# Altium footprint library amd-mach.PCBLIB: 14 footprints (part 1 of 2)
Each footprint in its own frame and in the unit in brackets; x right, y up, seen from the top. Pads: shape width x height; smd on the part's side, far side on the other; paste and mask are expansions set on the pad; w line width, h text height; cw(c..) or ccw(c..) is an arc to the next point about the centre after c.
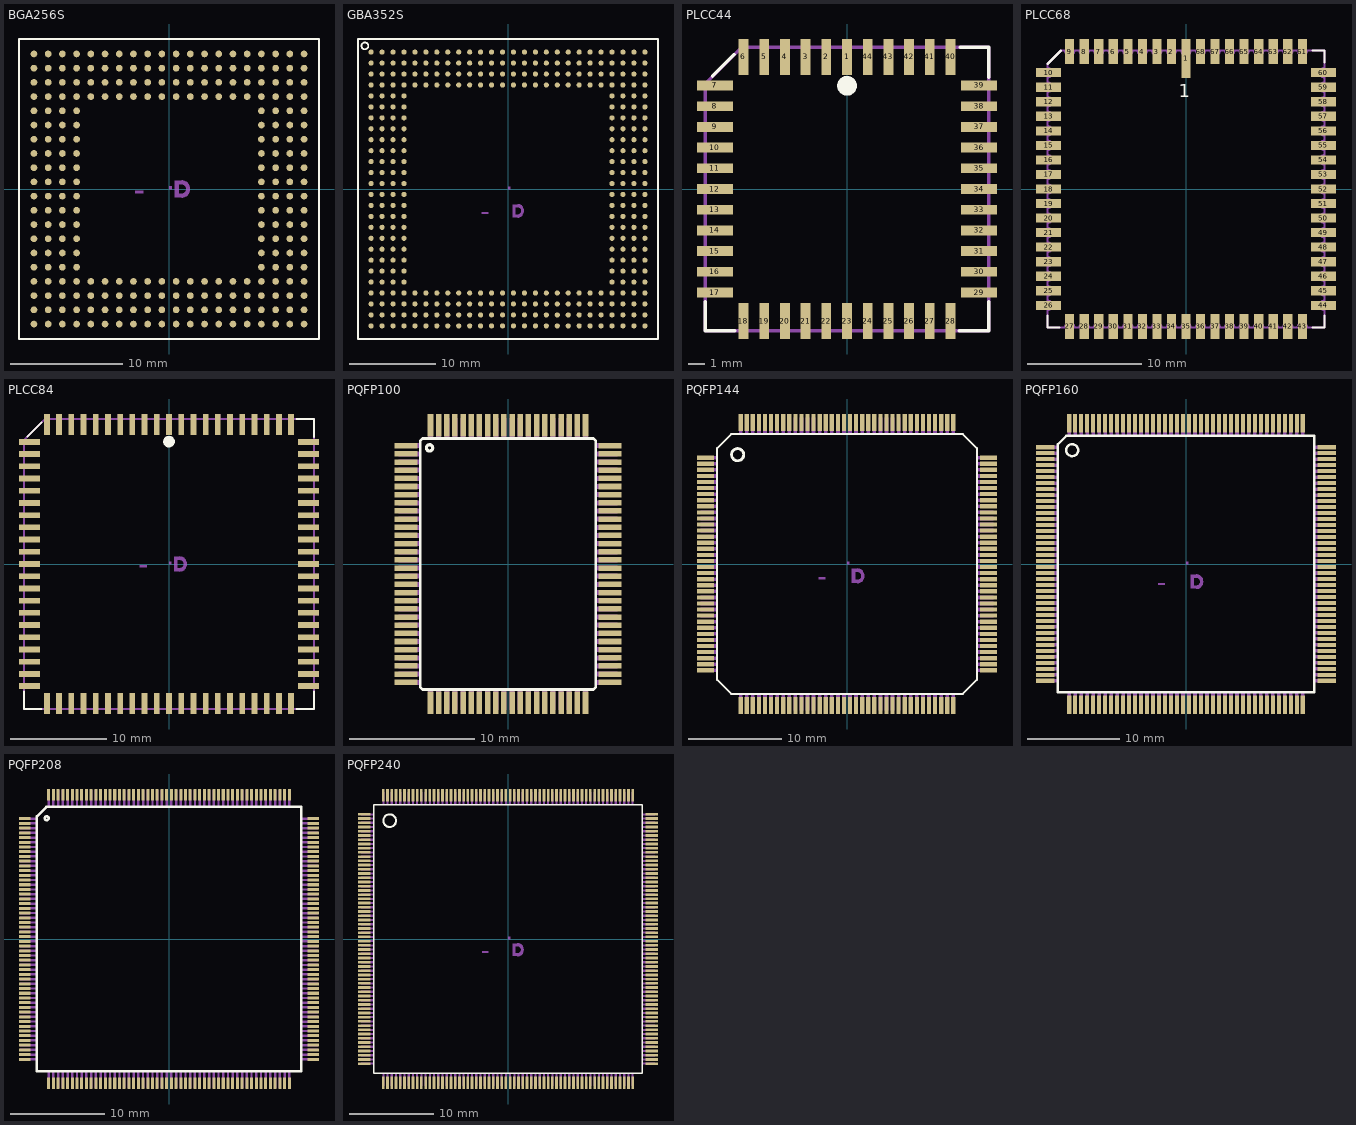
[diagram p0: the footprints below, top view; thin cyan lines are the x and y axes]

## BGA256S [mm]
pads (256):
  rrect100% 0.6x0.6 smd: A1(-12.065,12.065) A2(-10.795,12.065) A3(-9.525,12.065) A4(-8.255,12.065) A5(-6.985,12.065) A6(-5.715,12.065) A7(-4.445,12.065) A8(-3.175,12.065) A9(-1.905,12.065) A10(-0.635,12.065) A11(0.635,12.065) A12(1.905,12.065) A13(3.175,12.065) A14(4.445,12.065) A15(5.715,12.065) A16(6.985,12.065) A17(8.255,12.065) A18(9.525,12.065) A19(10.795,12.065) A20(12.065,12.065) B1(-12.065,10.795) B2(-10.795,10.795) B3(-9.525,10.795) B4(-8.255,10.795) B5(-6.985,10.795) B6(-5.715,10.795) B7(-4.445,10.795) B8(-3.175,10.795) B9(-1.905,10.795) B10(-0.635,10.795) B11(0.635,10.795) B12(1.905,10.795) B13(3.175,10.795) B14(4.445,10.795) B15(5.715,10.795) B16(6.985,10.795) B17(8.255,10.795) B18(9.525,10.795) B19(10.795,10.795) B20(12.065,10.795) C1(-12.065,9.525) C2(-10.795,9.525) C3(-9.525,9.525) C4(-8.255,9.525) C5(-6.985,9.525) C6(-5.715,9.525) C7(-4.445,9.525) C8(-3.175,9.525) C9(-1.905,9.525) C10(-0.635,9.525) C11(0.635,9.525) C12(1.905,9.525) C13(3.175,9.525) C14(4.445,9.525) C15(5.715,9.525) C16(6.985,9.525) C17(8.255,9.525) C18(9.525,9.525) C19(10.795,9.525) C20(12.065,9.525) D1(-12.065,8.255) D2(-10.795,8.255) D3(-9.525,8.255) D4(-8.255,8.255) D5(-6.985,8.255) D6(-5.715,8.255) D7(-4.445,8.255) D8(-3.175,8.255) D9(-1.905,8.255) D10(-0.635,8.255) D11(0.635,8.255) D12(1.905,8.255) D13(3.175,8.255) D14(4.445,8.255) D15(5.715,8.255) D16(6.985,8.255) D17(8.255,8.255) D18(9.525,8.255) D19(10.795,8.255) D20(12.065,8.255) E1(-12.065,6.985) E2(-10.795,6.985) E3(-9.525,6.985) E4(-8.255,6.985) E17(8.255,6.985) E18(9.525,6.985) E19(10.795,6.985) E20(12.065,6.985) F1(-12.065,5.715) F2(-10.795,5.715) F3(-9.525,5.715) F4(-8.255,5.715) F17(8.255,5.715) F18(9.525,5.715) F19(10.795,5.715) F20(12.065,5.715) G1(-12.065,4.445) G2(-10.795,4.445) G3(-9.525,4.445) G4(-8.255,4.445) G17(8.255,4.445) G18(9.525,4.445) G19(10.795,4.445) G20(12.065,4.445) H1(-12.065,3.175) H2(-10.795,3.175) H3(-9.525,3.175) H4(-8.255,3.175) H17(8.255,3.175) H18(9.525,3.175) H19(10.795,3.175) H20(12.065,3.175) J1(-12.065,1.905) J2(-10.795,1.905) J3(-9.525,1.905) J4(-8.255,1.905) J17(8.255,1.905) J18(9.525,1.905) J19(10.795,1.905) J20(12.065,1.905) K1(-12.065,0.635) K2(-10.795,0.635) K3(-9.525,0.635) K4(-8.255,0.635) K17(8.255,0.635) K18(9.525,0.635) K19(10.795,0.635) K20(12.065,0.635) L1(-12.065,-0.635) L2(-10.795,-0.635) L3(-9.525,-0.635) L4(-8.255,-0.635) L17(8.255,-0.635) L18(9.525,-0.635) L19(10.795,-0.635) L20(12.065,-0.635) M1(-12.065,-1.905) M2(-10.795,-1.905) M3(-9.525,-1.905) M4(-8.255,-1.905) M17(8.255,-1.905) M18(9.525,-1.905) M19(10.795,-1.905) M20(12.065,-1.905) N1(-12.065,-3.175) N2(-10.795,-3.175) N3(-9.525,-3.175) N4(-8.255,-3.175) N17(8.255,-3.175) N18(9.525,-3.175) N19(10.795,-3.175) N20(12.065,-3.175) P1(-12.065,-4.445) P2(-10.795,-4.445) P3(-9.525,-4.445) P4(-8.255,-4.445) P17(8.255,-4.445) P18(9.525,-4.445) P19(10.795,-4.445) P20(12.065,-4.445) R1(-12.065,-5.715) R2(-10.795,-5.715) R3(-9.525,-5.715) R4(-8.255,-5.715) R17(8.255,-5.715) R18(9.525,-5.715) R19(10.795,-5.715) R20(12.065,-5.715) T1(-12.065,-6.985) T2(-10.795,-6.985) T3(-9.525,-6.985) T4(-8.255,-6.985) T17(8.255,-6.985) T18(9.525,-6.985) T19(10.795,-6.985) T20(12.065,-6.985) U1(-12.065,-8.255) U2(-10.795,-8.255) U3(-9.525,-8.255) U4(-8.255,-8.255) U5(-6.985,-8.255) U6(-5.715,-8.255) U7(-4.445,-8.255) U8(-3.175,-8.255) U9(-1.905,-8.255) U10(-0.635,-8.255) U11(0.635,-8.255) U12(1.905,-8.255) U13(3.175,-8.255) U14(4.445,-8.255) U15(5.715,-8.255) U16(6.985,-8.255) U17(8.255,-8.255) U18(9.525,-8.255) U19(10.795,-8.255) U20(12.065,-8.255) V1(-12.065,-9.525) V2(-10.795,-9.525) V3(-9.525,-9.525) V4(-8.255,-9.525) V5(-6.985,-9.525) V6(-5.715,-9.525) V7(-4.445,-9.525) V8(-3.175,-9.525) V9(-1.905,-9.525) V10(-0.635,-9.525) V11(0.635,-9.525) V12(1.905,-9.525) V13(3.175,-9.525) V14(4.445,-9.525) V15(5.715,-9.525) V16(6.985,-9.525) V17(8.255,-9.525) V18(9.525,-9.525) V19(10.795,-9.525) V20(12.065,-9.525) W1(-12.065,-10.795) W2(-10.795,-10.795) W3(-9.525,-10.795) W4(-8.255,-10.795) W5(-6.985,-10.795) W6(-5.715,-10.795) W7(-4.445,-10.795) W8(-3.175,-10.795) W9(-1.905,-10.795) W10(-0.635,-10.795) W11(0.635,-10.795) W12(1.905,-10.795) W13(3.175,-10.795) W14(4.445,-10.795) W15(5.715,-10.795) W16(6.985,-10.795) W17(8.255,-10.795) W18(9.525,-10.795) W19(10.795,-10.795) W20(12.065,-10.795) Y1(-12.065,-12.065) Y2(-10.795,-12.065) Y3(-9.525,-12.065) Y4(-8.255,-12.065) Y5(-6.985,-12.065) Y6(-5.715,-12.065) Y7(-4.445,-12.065) Y8(-3.175,-12.065) Y9(-1.905,-12.065) Y10(-0.635,-12.065) Y11(0.635,-12.065) Y12(1.905,-12.065) Y13(3.175,-12.065) Y14(4.445,-12.065) Y15(5.715,-12.065) Y16(6.985,-12.065) Y17(8.255,-12.065) Y18(9.525,-12.065) Y19(10.795,-12.065) Y20(12.065,-12.065)
Top Overlay:
  lines w0.203: -13.4,-13.389 -13.4,13.389 ; -13.389,-13.4 13.389,-13.4 ; -13.389,13.4 13.389,13.4 ; 13.4,-13.389 13.4,13.389
Mechanical 16:
  rectangle: 0.584,0.406 1.143,0.762
  rectangle: 0.584,-0.762 1.143,-0.406
  rectangle: -3.048,-0.381 -2.286,-0.127
  rectangle: 0.508,-0.762 0.889,0.762
  region: 0,0 0.254,0 0.254,0.254 0,0.254
  region: 0,0 0.254,0 0.254,0.254 0,0.254
  region: 0,0 0.254,0 0.254,0.254 0,0.254
  region: 0,0 0.254,0 0.254,0.254 0,0.254
  region: 0,0 0.254,0 0.254,0.254 0,0.254
  lines w0.051: 1.118,-0.737 ccw(c1.118,0) 1.118,0.737
  lines w0.203: 1.118,-0.635 ccw(c1.118,0) 1.118,0.635
  lines w0.254: 1.118,-0.533 ccw(c1.118,0) 1.118,0.533
  text "BGA256" at -4.715,-2.635 h1.26

## GBA352S [mm]
pads (352):
  rrect100% 0.6x0.6 smd: A1(-15.875,15.875) A2(-14.605,15.875) A3(-13.335,15.875) A4(-12.065,15.875) A5(-10.795,15.875) A6(-9.525,15.875) A7(-8.255,15.875) A8(-6.985,15.875) A9(-5.715,15.875) A10(-4.445,15.875) A11(-3.175,15.875) A12(-1.905,15.875) A13(-0.635,15.875) A14(0.635,15.875) A15(1.905,15.875) A16(3.175,15.875) A17(4.445,15.875) A18(5.715,15.875) A19(6.985,15.875) A20(8.255,15.875) A21(9.525,15.875) A22(10.795,15.875) A23(12.065,15.875) A24(13.335,15.875) A25(14.605,15.875) A26(15.875,15.875) AA1(-15.875,-9.525) AA2(-14.605,-9.525) AA3(-13.335,-9.525) AA4(-12.065,-9.525) AA23(12.065,-9.525) AA24(13.335,-9.525) AA25(14.605,-9.525) AA26(15.875,-9.525) AB1(-15.875,-10.795) AB2(-14.605,-10.795) AB3(-13.335,-10.795) AB4(-12.065,-10.795) AB23(12.065,-10.795) AB24(13.335,-10.795) AB25(14.605,-10.795) AB26(15.875,-10.795) AC1(-15.875,-12.065) AC2(-14.605,-12.065) AC3(-13.335,-12.065) AC4(-12.065,-12.065) AC5(-10.795,-12.065) AC6(-9.525,-12.065) AC7(-8.255,-12.065) AC8(-6.985,-12.065) AC9(-5.715,-12.065) AC10(-4.445,-12.065) AC11(-3.175,-12.065) AC12(-1.905,-12.065) AC13(-0.635,-12.065) AC14(0.635,-12.065) AC15(1.905,-12.065) AC16(3.175,-12.065) AC17(4.445,-12.065) AC18(5.715,-12.065) AC19(6.985,-12.065) AC20(8.255,-12.065) AC21(9.525,-12.065) AC22(10.795,-12.065) AC23(12.065,-12.065) AC24(13.335,-12.065) AC25(14.605,-12.065) AC26(15.875,-12.065) AD1(-15.875,-13.335) AD2(-14.605,-13.335) AD3(-13.335,-13.335) AD4(-12.065,-13.335) AD5(-10.795,-13.335) AD6(-9.525,-13.335) AD7(-8.255,-13.335) AD8(-6.985,-13.335) AD9(-5.715,-13.335) AD10(-4.445,-13.335) AD11(-3.175,-13.335) AD12(-1.905,-13.335) AD13(-0.635,-13.335) AD14(0.635,-13.335) AD15(1.905,-13.335) AD16(3.175,-13.335) AD17(4.445,-13.335) AD18(5.715,-13.335) AD19(6.985,-13.335) AD20(8.255,-13.335) AD21(9.525,-13.335) AD22(10.795,-13.335) AD23(12.065,-13.335) AD24(13.335,-13.335) AD25(14.605,-13.335) AD26(15.875,-13.335) AE1(-15.875,-14.605) AE2(-14.605,-14.605) AE3(-13.335,-14.605) AE4(-12.065,-14.605) AE5(-10.795,-14.605) AE6(-9.525,-14.605) AE7(-8.255,-14.605) AE8(-6.985,-14.605) AE9(-5.715,-14.605) AE10(-4.445,-14.605) AE11(-3.175,-14.605) AE12(-1.905,-14.605) AE13(-0.635,-14.605) AE14(0.635,-14.605) AE15(1.905,-14.605) AE16(3.175,-14.605) AE17(4.445,-14.605) AE18(5.715,-14.605) AE19(6.985,-14.605) AE20(8.255,-14.605) AE21(9.525,-14.605) AE22(10.795,-14.605) AE23(12.065,-14.605) AE24(13.335,-14.605) AE25(14.605,-14.605) AE26(15.875,-14.605) AF1(-15.875,-15.875) AF2(-14.605,-15.875) AF3(-13.335,-15.875) AF4(-12.065,-15.875) AF5(-10.795,-15.875) AF6(-9.525,-15.875) AF7(-8.255,-15.875) AF8(-6.985,-15.875) AF9(-5.715,-15.875) AF10(-4.445,-15.875) AF11(-3.175,-15.875) AF12(-1.905,-15.875) AF13(-0.635,-15.875) AF14(0.635,-15.875) AF15(1.905,-15.875) AF16(3.175,-15.875) AF17(4.445,-15.875) AF18(5.715,-15.875) AF19(6.985,-15.875) AF20(8.255,-15.875) AF21(9.525,-15.875) AF22(10.795,-15.875) AF23(12.065,-15.875) AF24(13.335,-15.875) AF25(14.605,-15.875) AF26(15.875,-15.875) B1(-15.875,14.605) B2(-14.605,14.605) B3(-13.335,14.605) B4(-12.065,14.605) B5(-10.795,14.605) B6(-9.525,14.605) B7(-8.255,14.605) B8(-6.985,14.605) B9(-5.715,14.605) B10(-4.445,14.605) B11(-3.175,14.605) B12(-1.905,14.605) B13(-0.635,14.605) B14(0.635,14.605) B15(1.905,14.605) B16(3.175,14.605) B17(4.445,14.605) B18(5.715,14.605) B19(6.985,14.605) B20(8.255,14.605) B21(9.525,14.605) B22(10.795,14.605) B23(12.065,14.605) B24(13.335,14.605) B25(14.605,14.605) B26(15.875,14.605) C1(-15.875,13.335) C2(-14.605,13.335) C3(-13.335,13.335) C4(-12.065,13.335) C5(-10.795,13.335) C6(-9.525,13.335) C7(-8.255,13.335) C8(-6.985,13.335) C9(-5.715,13.335) C10(-4.445,13.335) C11(-3.175,13.335) C12(-1.905,13.335) C13(-0.635,13.335) C14(0.635,13.335) C15(1.905,13.335) C16(3.175,13.335) C17(4.445,13.335) C18(5.715,13.335) C19(6.985,13.335) C20(8.255,13.335) C21(9.525,13.335) C22(10.795,13.335) C23(12.065,13.335) C24(13.335,13.335) C25(14.605,13.335) C26(15.875,13.335) D1(-15.875,12.065) D2(-14.605,12.065) D3(-13.335,12.065) D4(-12.065,12.065) D5(-10.795,12.065) D6(-9.525,12.065) D7(-8.255,12.065) D8(-6.985,12.065) D9(-5.715,12.065) D10(-4.445,12.065) D11(-3.175,12.065) D12(-1.905,12.065) D13(-0.635,12.065) D14(0.635,12.065) D15(1.905,12.065) D16(3.175,12.065) D17(4.445,12.065) D18(5.715,12.065) D19(6.985,12.065) D20(8.255,12.065) D21(9.525,12.065) D22(10.795,12.065) D23(12.065,12.065) D24(13.335,12.065) D25(14.605,12.065) D26(15.875,12.065) E1(-15.875,10.795) E2(-14.605,10.795) E3(-13.335,10.795) E4(-12.065,10.795) E23(12.065,10.795) E24(13.335,10.795) E25(14.605,10.795) E26(15.875,10.795) F1(-15.875,9.525) F2(-14.605,9.525) F3(-13.335,9.525) F4(-12.065,9.525) F23(12.065,9.525) F24(13.335,9.525) F25(14.605,9.525) F26(15.875,9.525) G1(-15.875,8.255) G2(-14.605,8.255) G3(-13.335,8.255) G4(-12.065,8.255) G23(12.065,8.255) G24(13.335,8.255) G25(14.605,8.255) G26(15.875,8.255) H1(-15.875,6.985) H2(-14.605,6.985) H3(-13.335,6.985) H4(-12.065,6.985) H23(12.065,6.985) H24(13.335,6.985) H25(14.605,6.985) H26(15.875,6.985) J1(-15.875,5.715) J2(-14.605,5.715) J3(-13.335,5.715) J4(-12.065,5.715) J23(12.065,5.715) J24(13.335,5.715) J25(14.605,5.715) J26(15.875,5.715) K1(-15.875,4.445) K2(-14.605,4.445) K3(-13.335,4.445) K4(-12.065,4.445) K23(12.065,4.445) K24(13.335,4.445) K25(14.605,4.445) K26(15.875,4.445) L1(-15.875,3.175) L2(-14.605,3.175) L3(-13.335,3.175) L4(-12.065,3.175) L23(12.065,3.175) L24(13.335,3.175) L25(14.605,3.175) L26(15.875,3.175) M1(-15.875,1.905) M2(-14.605,1.905) M3(-13.335,1.905) M4(-12.065,1.905) M23(12.065,1.905) M24(13.335,1.905) M25(14.605,1.905) M26(15.875,1.905) N1(-15.875,0.635) N2(-14.605,0.635) N3(-13.335,0.635) N4(-12.065,0.635) N23(12.065,0.635) N24(13.335,0.635) N25(14.605,0.635) N26(15.875,0.635) P1(-15.875,-0.635) P2(-14.605,-0.635) P3(-13.335,-0.635) P4(-12.065,-0.635) P23(12.065,-0.635) P24(13.335,-0.635) P25(14.605,-0.635) P26(15.875,-0.635) R1(-15.875,-1.905) R2(-14.605,-1.905) R3(-13.335,-1.905) R4(-12.065,-1.905) R23(12.065,-1.905) R24(13.335,-1.905) R25(14.605,-1.905) R26(15.875,-1.905) T1(-15.875,-3.175) T2(-14.605,-3.175) T3(-13.335,-3.175) T4(-12.065,-3.175) T23(12.065,-3.175) T24(13.335,-3.175) T25(14.605,-3.175) T26(15.875,-3.175) U1(-15.875,-4.445) U2(-14.605,-4.445) U3(-13.335,-4.445) U4(-12.065,-4.445) U23(12.065,-4.445) U24(13.335,-4.445) U25(14.605,-4.445) U26(15.875,-4.445) V1(-15.875,-5.715) V2(-14.605,-5.715) V3(-13.335,-5.715) V4(-12.065,-5.715) V23(12.065,-5.715) V24(13.335,-5.715) V25(14.605,-5.715) V26(15.875,-5.715) W1(-15.875,-6.985) W2(-14.605,-6.985) W3(-13.335,-6.985) W4(-12.065,-6.985) W23(12.065,-6.985) W24(13.335,-6.985) W25(14.605,-6.985) W26(15.875,-6.985) Y1(-15.875,-8.255) Y2(-14.605,-8.255) Y3(-13.335,-8.255) Y4(-12.065,-8.255) Y23(12.065,-8.255) Y24(13.335,-8.255) Y25(14.605,-8.255) Y26(15.875,-8.255)
Top Overlay:
  circle w0.203: c-16.6,16.6 r0.4
  lines w0.203: -17.4,-17.4 -17.4,17.4 17.4,17.4 17.4,-17.4 -17.4,-17.4
Mechanical 16:
  rectangle: 0.584,-2.134 1.143,-1.778
  rectangle: 0.584,-3.302 1.143,-2.946
  rectangle: -3.048,-2.921 -2.286,-2.667
  rectangle: 0.508,-3.302 0.889,-1.778
  region: 0,0 0.254,0 0.254,0.254 0,0.254
  region: 0,0 0.254,0 0.254,0.254 0,0.254
  region: 0,0 0.254,0 0.254,0.254 0,0.254
  region: 0,0 0.254,0 0.254,0.254 0,0.254
  region: 0,0 0.254,0 0.254,0.254 0,0.254
  region: 0,0 0.254,0 0.254,0.254 0,0.254
  lines w0.051: 1.118,-3.277 ccw(c1.118,-2.54) 1.118,-1.803
  lines w0.203: 1.118,-3.175 ccw(c1.118,-2.54) 1.118,-1.905
  lines w0.254: 1.118,-3.073 ccw(c1.118,-2.54) 1.118,-2.007
  text "BGA352" at -2.175,-6.445 h1.26

## PLCC44 [mm]
pads (44):
  rect 0.6x2.2 smd: 1(0,8.1) 2(-1.27,8.1) 3(-2.54,8.1) 4(-3.81,8.1) 5(-5.08,8.1) 6(-6.35,8.1) 18(-6.35,-8.1) 19(-5.08,-8.1) 20(-3.81,-8.1) 21(-2.54,-8.1) 22(-1.27,-8.1) 23(0,-8.1) 24(1.27,-8.1) 25(2.54,-8.1) 26(3.81,-8.1) 27(5.08,-8.1) 28(6.35,-8.1) 40(6.35,8.1) 41(5.08,8.1) 42(3.81,8.1) 43(2.54,8.1) 44(1.27,8.1)
  rect 2.2x0.6 smd: 7(-8.1,6.35) 8(-8.1,5.08) 9(-8.1,3.81) 10(-8.1,2.54) 11(-8.1,1.27) 12(-8.1,0) 13(-8.1,-1.27) 14(-8.1,-2.54) 15(-8.1,-3.81) 16(-8.1,-5.08) 17(-8.1,-6.35) 29(8.1,-6.35) 30(8.1,-5.08) 31(8.1,-3.81) 32(8.1,-2.54) 33(8.1,-1.27) 34(8.1,0) 35(8.1,1.27) 36(8.1,2.54) 37(8.1,3.81) 38(8.1,5.08) 39(8.1,6.35)
Top Overlay:
  circle w0.61: c0,6.33 r0.3
  lines w0.203: -8.687,-6.909 -8.687,-8.687 -6.883,-8.687 ; -8.255,6.909 -6.909,8.255 ; 6.883,-8.687 8.687,-8.687 8.687,-6.909 ; 6.934,8.687 8.687,8.687 8.687,6.858
Mechanical 16:
  rectangle: -0.26,8.75 0.26,9.2
  rectangle: -1.53,8.75 -1.01,9.2
  rectangle: -2.8,8.75 -2.28,9.2
  rectangle: -4.07,8.75 -3.55,9.2
  rectangle: -5.34,8.75 -4.82,9.2
  rectangle: -6.61,8.75 -6.09,9.2
  rectangle: -9.2,6.09 -8.75,6.61
  rectangle: -9.2,4.82 -8.75,5.34
  rectangle: -9.2,3.55 -8.75,4.07
  rectangle: -9.2,2.28 -8.75,2.8
  rectangle: -9.2,1.01 -8.75,1.53
  rectangle: -9.2,-0.26 -8.75,0.26
  rectangle: -9.2,-1.53 -8.75,-1.01
  rectangle: -9.2,-2.8 -8.75,-2.28
  rectangle: -9.2,-4.07 -8.75,-3.55
  rectangle: -9.2,-5.34 -8.75,-4.82
  rectangle: -9.2,-6.61 -8.75,-6.09
  rectangle: -6.61,-9.2 -6.09,-8.75
  rectangle: -5.34,-9.2 -4.82,-8.75
  rectangle: -4.07,-9.2 -3.55,-8.75
  rectangle: -2.8,-9.2 -2.28,-8.75
  rectangle: -1.53,-9.2 -1.01,-8.75
  rectangle: -0.26,-9.2 0.26,-8.75
  rectangle: 1.01,-9.2 1.53,-8.75
  rectangle: 2.28,-9.2 2.8,-8.75
  rectangle: 3.55,-9.2 4.07,-8.75
  rectangle: 4.82,-9.2 5.34,-8.75
  rectangle: 6.09,-9.2 6.61,-8.75
  rectangle: 8.75,-6.61 9.2,-6.09
  rectangle: 8.75,-5.34 9.2,-4.82
  rectangle: 8.75,-4.07 9.2,-3.55
  rectangle: 8.75,-2.8 9.2,-2.28
  rectangle: 8.75,-1.53 9.2,-1.01
  rectangle: 8.75,-0.26 9.2,0.26
  rectangle: 8.75,1.01 9.2,1.53
  rectangle: 8.75,2.28 9.2,2.8
  rectangle: 8.75,3.55 9.2,4.07
  rectangle: 8.75,4.82 9.2,5.34
  rectangle: 8.75,6.09 9.2,6.61
  rectangle: 6.09,8.75 6.61,9.2
  rectangle: 4.82,8.75 5.34,9.2
  rectangle: 3.55,8.75 4.07,9.2
  rectangle: 2.28,8.75 2.8,9.2
  rectangle: 1.01,8.75 1.53,9.2
  lines w0.203: -8.7,-8.7 -8.7,6.465 -6.465,8.7 8.7,8.7 8.7,-8.7 -8.7,-8.7
  text "PLCC-44" at -4.055,0.46 h0.94

## PLCC68 [mil]
pads (68):
  rect 31.5x133.86 smd: 1(0,448.82)
  rect 31.5x86.61 smd: 2(-50,472.44) 3(-100,472.44) 4(-150,472.44) 5(-200,472.44) 6(-250,472.44) 7(-300,472.44) 8(-350,472.44) 9(-400,472.44) 27(-400,-472.44) 28(-350,-472.44) 29(-300,-472.44) 30(-250,-472.44) 31(-200,-472.44) 32(-150,-472.44) 33(-100,-472.44) 34(-50,-472.44) 35(0,-472.44) 36(50,-472.44) 37(100,-472.44) 38(150,-472.44) 39(200,-472.44) 40(250,-472.44) 41(300,-472.44) 42(350,-472.44) 43(400,-472.44) 61(400,472.44) 62(350,472.44) 63(300,472.44) 64(250,472.44) 65(200,472.44) 66(150,472.44) 67(100,472.44) 68(50,472.44)
  rect 86.61x31.5 smd: 10(-472.44,400) 11(-472.44,350) 12(-472.44,300) 13(-472.44,250) 14(-472.44,200) 15(-472.44,150) 16(-472.44,100) 17(-472.44,50) 18(-472.44,0) 19(-472.44,-50) 20(-472.44,-100) 21(-472.44,-150) 22(-472.44,-200) 23(-472.44,-250) 24(-472.44,-300) 25(-472.44,-350) 26(-472.44,-400) 44(472.44,-400) 45(472.44,-350) 46(472.44,-300) 47(472.44,-250) 48(472.44,-200) 49(472.44,-150) 50(472.44,-100) 51(472.44,-50) 52(472.44,0) 53(472.44,50) 54(472.44,100) 55(472.44,150) 56(472.44,200) 57(472.44,250) 58(472.44,300) 59(472.44,350) 60(472.44,400)
Top Overlay:
  lines w8: -476.38,-435.75 -476.38,-476.38 -435.75,-476.38 ; -476.38,429.92 -429.92,476.38 ; 435.75,-476.38 476.38,-476.38 476.38,-435.75 ; 435.75,476.38 476.38,476.38 476.38,435.75
  text "1" at -25,300 h77.5
Mechanical 16:
  lines w8: -476.38,-415.75 -476.38,-476.38 -415.75,-476.38 ; -476.38,-384.25 -476.38,-365.75 ; -476.38,-334.25 -476.38,-315.75 ; -476.38,-284.25 -476.38,-265.75 ; -476.38,-234.25 -476.38,-215.75 ; -476.38,-184.25 -476.38,-165.75 ; -476.38,-134.25 -476.38,-115.75 ; -476.38,-84.25 -476.38,-65.75 ; -476.38,-34.25 -476.38,-15.75 ; -476.38,15.75 -476.38,34.25 ; -476.38,65.75 -476.38,84.25 ; -476.38,115.75 -476.38,134.25 ; -476.38,165.75 -476.38,184.25 ; -476.38,215.75 -476.38,234.25 ; -476.38,265.75 -476.38,284.25 ; -476.38,315.75 -476.38,334.25 ; -476.38,365.75 -476.38,384.25 ; -476.38,415.75 -476.38,429.92 -429.92,476.38 -415.75,476.38 ; -476.32,-415.75 ccw(c-476.32,-400) -476.32,-384.25 ; -476.32,-365.75 ccw(c-476.32,-350) -476.32,-334.25 ; -476.32,-315.75 ccw(c-476.32,-300) -476.32,-284.25 ; -476.32,-265.75 ccw(c-476.32,-250) -476.32,-234.25 ; -476.32,-215.75 ccw(c-476.32,-200) -476.32,-184.25 ; -476.32,-165.75 ccw(c-476.32,-150) -476.32,-134.25 ; -476.32,-115.75 ccw(c-476.32,-100) -476.32,-84.25 ; -476.32,-65.75 ccw(c-476.32,-50) -476.32,-34.25 ; -476.32,-15.75 ccw(c-476.32,0) -476.32,15.75 ; -476.32,34.25 ccw(c-476.32,50) -476.32,65.75 ; -476.32,84.25 ccw(c-476.32,100) -476.32,115.75 ; -476.32,134.25 ccw(c-476.32,150) -476.32,165.75 ; -476.32,184.25 ccw(c-476.32,200) -476.32,215.75 ; -476.32,234.25 ccw(c-476.32,250) -476.32,265.75 ; -476.32,284.25 ccw(c-476.32,300) -476.32,315.75 ; -476.32,334.25 ccw(c-476.32,350) -476.32,365.75 ; -476.32,384.25 ccw(c-476.32,400) -476.32,415.75 ; -415.75,-476.32 cw(c-400,-476.32) -384.25,-476.32 ; -415.75,476.32 ccw(c-400,476.32) -384.25,476.32 ; -384.25,-476.38 -365.75,-476.38 ; -384.25,476.38 -365.75,476.38 ; -365.75,-476.32 cw(c-350,-476.32) -334.25,-476.32 ; -365.75,476.32 ccw(c-350,476.32) -334.25,476.32 ; -334.25,-476.38 -315.75,-476.38 ; -334.25,476.38 -315.75,476.38 ; -315.75,-476.32 cw(c-300,-476.32) -284.25,-476.32 ; -315.75,476.32 ccw(c-300,476.32) -284.25,476.32 ; -284.25,-476.38 -265.75,-476.38 ; -284.25,476.38 -265.75,476.38 ; -265.75,-476.32 cw(c-250,-476.32) -234.25,-476.32 ; -265.75,476.32 ccw(c-250,476.32) -234.25,476.32 ; -234.25,-476.38 -215.75,-476.38 ; -234.25,476.38 -215.75,476.38 ; -215.75,-476.32 cw(c-200,-476.32) -184.25,-476.32 ; -215.75,476.32 ccw(c-200,476.32) -184.25,476.32 ; -184.25,-476.38 -165.75,-476.38 ; -184.25,476.38 -165.75,476.38 ; -165.75,-476.32 cw(c-150,-476.32) -134.25,-476.32 ; -165.75,476.32 ccw(c-150,476.32) -134.25,476.32 ; -134.25,-476.38 -115.75,-476.38 ; -134.25,476.38 -115.75,476.38 ; -115.75,-476.32 cw(c-100,-476.32) -84.25,-476.32 ; -115.75,476.32 ccw(c-100,476.32) -84.25,476.32 ; -84.25,-476.38 -65.75,-476.38 ; -84.25,476.38 -65.75,476.38 ; -65.75,-476.32 cw(c-50,-476.32) -34.25,-476.32 ; -65.75,476.32 ccw(c-50,476.32) -34.25,476.32 ; -34.25,-476.38 -15.75,-476.38 ; -34.25,476.38 -15.75,476.38 ; -15.75,-476.32 cw(c0,-476.32) 15.75,-476.32 ; -15.75,476.32 ccw(c0,476.32) 15.75,476.32 ; 15.75,-476.38 34.25,-476.38 ; 15.75,476.38 34.25,476.38 ; 34.25,-476.32 cw(c50,-476.32) 65.75,-476.32 ; 34.25,476.32 ccw(c50,476.32) 65.75,476.32 ; 65.75,-476.38 84.25,-476.38 ; 65.75,476.38 84.25,476.38 ; 84.25,-476.32 cw(c100,-476.32) 115.75,-476.32 ; 84.25,476.32 ccw(c100,476.32) 115.75,476.32 ; 115.75,-476.38 134.25,-476.38 ; 115.75,476.38 134.25,476.38 ; 134.25,-476.32 cw(c150,-476.32) 165.75,-476.32 ; 134.25,476.32 ccw(c150,476.32) 165.75,476.32 ; 165.75,-476.38 184.25,-476.38 ; 165.75,476.38 184.25,476.38 ; 184.25,-476.32 cw(c200,-476.32) 215.75,-476.32 ; 184.25,476.32 ccw(c200,476.32) 215.75,476.32 ; 215.75,-476.38 234.25,-476.38 ; 215.75,476.38 234.25,476.38 ; 234.25,-476.32 cw(c250,-476.32) 265.75,-476.32 ; 234.25,476.32 ccw(c250,476.32) 265.75,476.32 ; 265.75,-476.38 284.25,-476.38 ; 265.75,476.38 284.25,476.38 ; 284.25,-476.32 cw(c300,-476.32) 315.75,-476.32 ; 284.25,476.32 ccw(c300,476.32) 315.75,476.32 ; 315.75,-476.38 334.25,-476.38 ; 315.75,476.38 334.25,476.38 ; 334.25,-476.32 cw(c350,-476.32) 365.75,-476.32 ; 334.25,476.32 ccw(c350,476.32) 365.75,476.32 ; 365.75,-476.38 384.25,-476.38 ; 365.75,476.38 384.25,476.38 ; 384.25,-476.32 cw(c400,-476.32) 415.75,-476.32 ; 384.25,476.32 ccw(c400,476.32) 415.75,476.32 ; 415.75,-476.38 476.38,-476.38 476.38,-415.75 ; 415.75,476.38 476.38,476.38 476.38,415.75 ; 476.32,-415.75 cw(c476.32,-400) 476.32,-384.25 ; 476.32,-365.75 cw(c476.32,-350) 476.32,-334.25 ; 476.32,-315.75 cw(c476.32,-300) 476.32,-284.25 ; 476.32,-265.75 cw(c476.32,-250) 476.32,-234.25 ; 476.32,-215.75 cw(c476.32,-200) 476.32,-184.25 ; 476.32,-165.75 cw(c476.32,-150) 476.32,-134.25 ; 476.32,-115.75 cw(c476.32,-100) 476.32,-84.25 ; 476.32,-65.75 cw(c476.32,-50) 476.32,-34.25 ; 476.32,-15.75 cw(c476.32,0) 476.32,15.75 ; 476.32,34.25 cw(c476.32,50) 476.32,65.75 ; 476.32,84.25 cw(c476.32,100) 476.32,115.75 ; 476.32,134.25 cw(c476.32,150) 476.32,165.75 ; 476.32,184.25 cw(c476.32,200) 476.32,215.75 ; 476.32,234.25 cw(c476.32,250) 476.32,265.75 ; 476.32,284.25 cw(c476.32,300) 476.32,315.75 ; 476.32,334.25 cw(c476.32,350) 476.32,365.75 ; 476.32,384.25 cw(c476.32,400) 476.32,415.75 ; 476.38,-384.25 476.38,-365.75 ; 476.38,-334.25 476.38,-315.75 ; 476.38,-284.25 476.38,-265.75 ; 476.38,-234.25 476.38,-215.75 ; 476.38,-184.25 476.38,-165.75 ; 476.38,-134.25 476.38,-115.75 ; 476.38,-84.25 476.38,-65.75 ; 476.38,-34.25 476.38,-15.75 ; 476.38,15.75 476.38,34.25 ; 476.38,65.75 476.38,84.25 ; 476.38,115.75 476.38,134.25 ; 476.38,165.75 476.38,184.25 ; 476.38,215.75 476.38,234.25 ; 476.38,265.75 476.38,284.25 ; 476.38,315.75 476.38,334.25 ; 476.38,365.75 476.38,384.25

## PLCC84 [mm]
pads (84):
  rect 0.6x2.2 smd: 1(0,14.5) 2(-1.27,14.5) 3(-2.54,14.5) 4(-3.81,14.5) 5(-5.08,14.5) 6(-6.35,14.5) 7(-7.62,14.5) 8(-8.89,14.5) 9(-10.16,14.5) 10(-11.43,14.5) 11(-12.7,14.5) 33(-12.7,-14.5) 34(-11.43,-14.5) 35(-10.16,-14.5) 36(-8.89,-14.5) 37(-7.62,-14.5) 38(-6.35,-14.5) 39(-5.08,-14.5) 40(-3.81,-14.5) 41(-2.54,-14.5) 42(-1.27,-14.5) 43(0,-14.5) 44(1.27,-14.5) 45(2.54,-14.5) 46(3.81,-14.5) 47(5.08,-14.5) 48(6.35,-14.5) 49(7.62,-14.5) 50(8.89,-14.5) 51(10.16,-14.5) 52(11.43,-14.5) 53(12.7,-14.5) 75(12.7,14.5) 76(11.43,14.5) 77(10.16,14.5) 78(8.89,14.5) 79(7.62,14.5) 80(6.35,14.5) 81(5.08,14.5) 82(3.81,14.5) 83(2.54,14.5) 84(1.27,14.5)
  rect 2.2x0.6 smd: 12(-14.5,12.7) 13(-14.5,11.43) 14(-14.5,10.16) 15(-14.5,8.89) 16(-14.5,7.62) 17(-14.5,6.35) 18(-14.5,5.08) 19(-14.5,3.81) 20(-14.5,2.54) 21(-14.5,1.27) 22(-14.5,0) 23(-14.5,-1.27) 24(-14.5,-2.54) 25(-14.5,-3.81) 26(-14.5,-5.08) 27(-14.5,-6.35) 28(-14.5,-7.62) 29(-14.5,-8.89) 30(-14.5,-10.16) 31(-14.5,-11.43) 32(-14.5,-12.7) 54(14.5,-12.7) 55(14.5,-11.43) 56(14.5,-10.16) 57(14.5,-8.89) 58(14.5,-7.62) 59(14.5,-6.35) 60(14.5,-5.08) 61(14.5,-3.81) 62(14.5,-2.54) 63(14.5,-1.27) 64(14.5,0) 65(14.5,1.27) 66(14.5,2.54) 67(14.5,3.81) 68(14.5,5.08) 69(14.5,6.35) 70(14.5,7.62) 71(14.5,8.89) 72(14.5,10.16) 73(14.5,11.43) 74(14.5,12.7)
Top Overlay:
  circle w0.61: c0,12.73 r0.3
  lines w0.203: -15.088,-13.233 -15.088,-15.088 -13.259,-15.088 ; -14.732,13.233 -13.233,14.732 ; 13.233,-15.088 15.088,-15.088 15.088,-13.233 ; 13.233,15.088 15.088,15.088 15.088,13.208
Mechanical 16:
  rectangle: -0.26,15.15 0.26,15.6
  rectangle: -1.53,15.15 -1.01,15.6
  rectangle: -2.8,15.15 -2.28,15.6
  rectangle: -4.07,15.15 -3.55,15.6
  rectangle: -5.34,15.15 -4.82,15.6
  rectangle: -6.61,15.15 -6.09,15.6
  rectangle: -7.88,15.15 -7.36,15.6
  rectangle: -9.15,15.15 -8.63,15.6
  rectangle: -10.42,15.15 -9.9,15.6
  rectangle: -11.69,15.15 -11.17,15.6
  rectangle: -12.96,15.15 -12.44,15.6
  rectangle: -15.6,12.44 -15.15,12.96
  rectangle: -15.6,11.17 -15.15,11.69
  rectangle: -15.6,9.9 -15.15,10.42
  rectangle: -15.6,8.63 -15.15,9.15
  rectangle: -15.6,7.36 -15.15,7.88
  rectangle: -15.6,6.09 -15.15,6.61
  rectangle: -15.6,4.82 -15.15,5.34
  rectangle: -15.6,3.55 -15.15,4.07
  rectangle: -15.6,2.28 -15.15,2.8
  rectangle: -15.6,1.01 -15.15,1.53
  rectangle: -15.6,-0.26 -15.15,0.26
  rectangle: -15.6,-1.53 -15.15,-1.01
  rectangle: -15.6,-2.8 -15.15,-2.28
  rectangle: -15.6,-4.07 -15.15,-3.55
  rectangle: -15.6,-5.34 -15.15,-4.82
  rectangle: -15.6,-6.61 -15.15,-6.09
  rectangle: -15.6,-7.88 -15.15,-7.36
  rectangle: -15.6,-9.15 -15.15,-8.63
  rectangle: -15.6,-10.42 -15.15,-9.9
  rectangle: -15.6,-11.69 -15.15,-11.17
  rectangle: -15.6,-12.96 -15.15,-12.44
  rectangle: -12.96,-15.6 -12.44,-15.15
  rectangle: -11.69,-15.6 -11.17,-15.15
  rectangle: -10.42,-15.6 -9.9,-15.15
  rectangle: -9.15,-15.6 -8.63,-15.15
  rectangle: -7.88,-15.6 -7.36,-15.15
  rectangle: -6.61,-15.6 -6.09,-15.15
  rectangle: -5.34,-15.6 -4.82,-15.15
  rectangle: -4.07,-15.6 -3.55,-15.15
  rectangle: -2.8,-15.6 -2.28,-15.15
  rectangle: -1.53,-15.6 -1.01,-15.15
  rectangle: -0.26,-15.6 0.26,-15.15
  rectangle: 1.01,-15.6 1.53,-15.15
  rectangle: 2.28,-15.6 2.8,-15.15
  rectangle: 3.55,-15.6 4.07,-15.15
  rectangle: 4.82,-15.6 5.34,-15.15
  rectangle: 6.09,-15.6 6.61,-15.15
  rectangle: 7.36,-15.6 7.88,-15.15
  rectangle: 8.63,-15.6 9.15,-15.15
  rectangle: 9.9,-15.6 10.42,-15.15
  rectangle: 11.17,-15.6 11.69,-15.15
  rectangle: 12.44,-15.6 12.96,-15.15
  rectangle: 15.15,-12.96 15.6,-12.44
  rectangle: 15.15,-11.69 15.6,-11.17
  rectangle: 15.15,-10.42 15.6,-9.9
  rectangle: 15.15,-9.15 15.6,-8.63
  rectangle: 15.15,-7.88 15.6,-7.36
  rectangle: 15.15,-6.61 15.6,-6.09
  rectangle: 15.15,-5.34 15.6,-4.82
  rectangle: 15.15,-4.07 15.6,-3.55
  rectangle: 15.15,-2.8 15.6,-2.28
  rectangle: 15.15,-1.53 15.6,-1.01
  rectangle: 15.15,-0.26 15.6,0.26
  rectangle: 15.15,1.01 15.6,1.53
  rectangle: 15.15,2.28 15.6,2.8
  rectangle: 15.15,3.55 15.6,4.07
  rectangle: 15.15,4.82 15.6,5.34
  rectangle: 15.15,6.09 15.6,6.61
  rectangle: 15.15,7.36 15.6,7.88
  rectangle: 15.15,8.63 15.6,9.15
  rectangle: 15.15,9.9 15.6,10.42
  rectangle: 15.15,11.17 15.6,11.69
  rectangle: 15.15,12.44 15.6,12.96
  rectangle: 12.44,15.15 12.96,15.6
  rectangle: 11.17,15.15 11.69,15.6
  rectangle: 9.9,15.15 10.42,15.6
  rectangle: 8.63,15.15 9.15,15.6
  rectangle: 7.36,15.15 7.88,15.6
  rectangle: 6.09,15.15 6.61,15.6
  rectangle: 4.82,15.15 5.34,15.6
  rectangle: 3.55,15.15 4.07,15.6
  rectangle: 2.28,15.15 2.8,15.6
  rectangle: 1.01,15.15 1.53,15.6
  rectangle: 0.584,0.406 1.143,0.762
  rectangle: 0.584,-0.762 1.143,-0.406
  rectangle: -3.048,-0.381 -2.286,-0.127
  rectangle: 0.508,-0.762 0.889,0.762
  region: 0,0 0.254,0 0.254,0.254 0,0.254
  region: 0,0 0.254,0 0.254,0.254 0,0.254
  region: 0,0 0.254,0 0.254,0.254 0,0.254
  region: 0,0 0.254,0 0.254,0.254 0,0.254
  lines w0.051: 1.118,-0.737 ccw(c1.118,0) 1.118,0.737
  lines w0.203: 1.118,-0.635 ccw(c1.118,0) 1.118,0.635 ; -15.1,-15.1 -15.1,12.865 -12.865,15.1 15.1,15.1 15.1,-15.1 -15.1,-15.1
  lines w0.254: 1.118,-0.533 ccw(c1.118,0) 1.118,0.533

## PQFP100 [mm]
pads (100):
  rect 1.8x0.44 smd: 1(-8.125,9.425) 2(-8.125,8.775) 3(-8.125,8.125) 4(-8.125,7.475) 5(-8.125,6.825) 6(-8.125,6.175) 7(-8.125,5.525) 8(-8.125,4.875) 9(-8.125,4.225) 10(-8.125,3.575) 11(-8.125,2.925) 12(-8.125,2.275) 13(-8.125,1.625) 14(-8.125,0.975) 15(-8.125,0.325) 16(-8.125,-0.325) 17(-8.125,-0.975) 18(-8.125,-1.625) 19(-8.125,-2.275) 20(-8.125,-2.925) 21(-8.125,-3.575) 22(-8.125,-4.225) 23(-8.125,-4.875) 24(-8.125,-5.525) 25(-8.125,-6.175) 26(-8.125,-6.825) 27(-8.125,-7.475) 28(-8.125,-8.125) 29(-8.125,-8.775) 30(-8.125,-9.425) 51(8.125,-9.425) 52(8.125,-8.775) 53(8.125,-8.125) 54(8.125,-7.475) 55(8.125,-6.825) 56(8.125,-6.175) 57(8.125,-5.525) 58(8.125,-4.875) 59(8.125,-4.225) 60(8.125,-3.575) 61(8.125,-2.925) 62(8.125,-2.275) 63(8.125,-1.625) 64(8.125,-0.975) 65(8.125,-0.325) 66(8.125,0.325) 67(8.125,0.975) 68(8.125,1.625) 69(8.125,2.275) 70(8.125,2.925) 71(8.125,3.575) 72(8.125,4.225) 73(8.125,4.875) 74(8.125,5.525) 75(8.125,6.175) 76(8.125,6.825) 77(8.125,7.475) 78(8.125,8.125) 79(8.125,8.775) 80(8.125,9.425)
  rect 0.44x1.8 smd: 31(-6.175,-11.05) 32(-5.525,-11.05) 33(-4.875,-11.05) 34(-4.225,-11.05) 35(-3.575,-11.05) 36(-2.925,-11.05) 37(-2.275,-11.05) 38(-1.625,-11.05) 39(-0.975,-11.05) 40(-0.325,-11.05) 41(0.325,-11.05) 42(0.975,-11.05) 43(1.625,-11.05) 44(2.275,-11.05) 45(2.925,-11.05) 46(3.575,-11.05) 47(4.225,-11.05) 48(4.875,-11.05) 49(5.525,-11.05) 50(6.175,-11.05) 81(6.175,11.05) 82(5.525,11.05) 83(4.875,11.05) 84(4.225,11.05) 85(3.575,11.05) 86(2.925,11.05) 87(2.275,11.05) 88(1.625,11.05) 89(0.975,11.05) 90(0.325,11.05) 91(-0.325,11.05) 92(-0.975,11.05) 93(-1.625,11.05) 94(-2.275,11.05) 95(-2.925,11.05) 96(-3.575,11.05) 97(-4.225,11.05) 98(-4.875,11.05) 99(-5.525,11.05) 100(-6.175,11.05)
Top Overlay:
  circle w0.254: c-6.25,9.25 r0.25
  lines w0.203: -7,-9.8 -6.8,-10 6.8,-10 7,-9.8 7,9.8 6.8,10 -6.8,10 -7,9.8 -7,-9.8
Mechanical 16:
  rectangle: -8.725,9.225 -7.025,9.625
  rectangle: -8.725,8.575 -7.025,8.975
  rectangle: -8.725,7.925 -7.025,8.325
  rectangle: -8.725,7.275 -7.025,7.675
  rectangle: -8.725,6.625 -7.025,7.025
  rectangle: -8.725,5.975 -7.025,6.375
  rectangle: -8.725,5.325 -7.025,5.725
  rectangle: -8.725,4.675 -7.025,5.075
  rectangle: -8.725,4.025 -7.025,4.425
  rectangle: -8.725,3.375 -7.025,3.775
  rectangle: -8.725,2.725 -7.025,3.125
  rectangle: -8.725,2.075 -7.025,2.475
  rectangle: -8.725,1.425 -7.025,1.825
  rectangle: -8.725,0.775 -7.025,1.175
  rectangle: -8.725,0.125 -7.025,0.525
  rectangle: -8.725,-0.525 -7.025,-0.125
  rectangle: -8.725,-1.175 -7.025,-0.775
  rectangle: -8.725,-1.825 -7.025,-1.425
  rectangle: -8.725,-2.475 -7.025,-2.075
  rectangle: -8.725,-3.125 -7.025,-2.725
  rectangle: -8.725,-3.775 -7.025,-3.375
  rectangle: -8.725,-4.425 -7.025,-4.025
  rectangle: -8.725,-5.075 -7.025,-4.675
  rectangle: -8.725,-5.725 -7.025,-5.325
  rectangle: -8.725,-6.375 -7.025,-5.975
  rectangle: -8.725,-7.025 -7.025,-6.625
  rectangle: -8.725,-7.675 -7.025,-7.275
  rectangle: -8.725,-8.325 -7.025,-7.925
  rectangle: -8.725,-8.975 -7.025,-8.575
  rectangle: -8.725,-9.625 -7.025,-9.225
  rectangle: -6.375,-11.65 -5.975,-9.95
  rectangle: -5.725,-11.65 -5.325,-9.95
  rectangle: -5.075,-11.65 -4.675,-9.95
  rectangle: -4.425,-11.65 -4.025,-9.95
  rectangle: -3.775,-11.65 -3.375,-9.95
  rectangle: -3.125,-11.65 -2.725,-9.95
  rectangle: -2.475,-11.65 -2.075,-9.95
  rectangle: -1.825,-11.65 -1.425,-9.95
  rectangle: -1.175,-11.65 -0.775,-9.95
  rectangle: -0.525,-11.65 -0.125,-9.95
  rectangle: 0.125,-11.65 0.525,-9.95
  rectangle: 0.775,-11.65 1.175,-9.95
  rectangle: 1.425,-11.65 1.825,-9.95
  rectangle: 2.075,-11.65 2.475,-9.95
  rectangle: 2.725,-11.65 3.125,-9.95
  rectangle: 3.375,-11.65 3.775,-9.95
  rectangle: 4.025,-11.65 4.425,-9.95
  rectangle: 4.675,-11.65 5.075,-9.95
  rectangle: 5.325,-11.65 5.725,-9.95
  rectangle: 5.975,-11.65 6.375,-9.95
  rectangle: 7.025,-9.625 8.725,-9.225
  rectangle: 7.025,-8.975 8.725,-8.575
  rectangle: 7.025,-8.325 8.725,-7.925
  rectangle: 7.025,-7.675 8.725,-7.275
  rectangle: 7.025,-7.025 8.725,-6.625
  rectangle: 7.025,-6.375 8.725,-5.975
  rectangle: 7.025,-5.725 8.725,-5.325
  rectangle: 7.025,-5.075 8.725,-4.675
  rectangle: 7.025,-4.425 8.725,-4.025
  rectangle: 7.025,-3.775 8.725,-3.375
  rectangle: 7.025,-3.125 8.725,-2.725
  rectangle: 7.025,-2.475 8.725,-2.075
  rectangle: 7.025,-1.825 8.725,-1.425
  rectangle: 7.025,-1.175 8.725,-0.775
  rectangle: 7.025,-0.525 8.725,-0.125
  rectangle: 7.025,0.125 8.725,0.525
  rectangle: 7.025,0.775 8.725,1.175
  rectangle: 7.025,1.425 8.725,1.825
  rectangle: 7.025,2.075 8.725,2.475
  rectangle: 7.025,2.725 8.725,3.125
  rectangle: 7.025,3.375 8.725,3.775
  rectangle: 7.025,4.025 8.725,4.425
  rectangle: 7.025,4.675 8.725,5.075
  rectangle: 7.025,5.325 8.725,5.725
  rectangle: 7.025,5.975 8.725,6.375
  rectangle: 7.025,6.625 8.725,7.025
  rectangle: 7.025,7.275 8.725,7.675
  rectangle: 7.025,7.925 8.725,8.325
  rectangle: 7.025,8.575 8.725,8.975
  rectangle: 7.025,9.225 8.725,9.625
  rectangle: 5.975,9.95 6.375,11.65
  rectangle: 5.325,9.95 5.725,11.65
  rectangle: 4.675,9.95 5.075,11.65
  rectangle: 4.025,9.95 4.425,11.65
  rectangle: 3.375,9.95 3.775,11.65
  rectangle: 2.725,9.95 3.125,11.65
  rectangle: 2.075,9.95 2.475,11.65
  rectangle: 1.425,9.95 1.825,11.65
  rectangle: 0.775,9.95 1.175,11.65
  rectangle: 0.125,9.95 0.525,11.65
  rectangle: -0.525,9.95 -0.125,11.65
  rectangle: -1.175,9.95 -0.775,11.65
  rectangle: -1.825,9.95 -1.425,11.65
  rectangle: -2.475,9.95 -2.075,11.65
  rectangle: -3.125,9.95 -2.725,11.65
  rectangle: -3.775,9.95 -3.375,11.65
  rectangle: -4.425,9.95 -4.025,11.65
  rectangle: -5.075,9.95 -4.675,11.65
  rectangle: -5.725,9.95 -5.325,11.65
  rectangle: -6.375,9.95 -5.975,11.65
  text "PQFP 100" at -2.81,-2.48 h1.26

## PQFP144 [mm]
pads (144):
  rect 1.8x0.45 smd: 1(-15.15,11.375) 2(-15.15,10.725) 3(-15.15,10.075) 4(-15.15,9.425) 5(-15.15,8.775) 6(-15.15,8.125) 7(-15.15,7.475) 8(-15.15,6.825) 9(-15.15,6.175) 10(-15.15,5.525) 11(-15.15,4.875) 12(-15.15,4.225) 13(-15.15,3.575) 14(-15.15,2.925) 15(-15.15,2.275) 16(-15.15,1.625) 17(-15.15,0.975) 18(-15.15,0.325) 19(-15.15,-0.325) 20(-15.15,-0.975) 21(-15.15,-1.625) 22(-15.15,-2.275) 23(-15.15,-2.925) 24(-15.15,-3.575) 25(-15.15,-4.225) 26(-15.15,-4.875) 27(-15.15,-5.525) 28(-15.15,-6.175) 29(-15.15,-6.825) 30(-15.15,-7.475) 31(-15.15,-8.125) 32(-15.15,-8.775) 33(-15.15,-9.425) 34(-15.15,-10.075) 35(-15.15,-10.725) 36(-15.15,-11.375) 73(15.15,-11.375) 74(15.15,-10.725) 75(15.15,-10.075) 76(15.15,-9.425) 77(15.15,-8.775) 78(15.15,-8.125) 79(15.15,-7.475) 80(15.15,-6.825) 81(15.15,-6.175) 82(15.15,-5.525) 83(15.15,-4.875) 84(15.15,-4.225) 85(15.15,-3.575) 86(15.15,-2.925) 87(15.15,-2.275) 88(15.15,-1.625) 89(15.15,-0.975) 90(15.15,-0.325) 91(15.15,0.325) 92(15.15,0.975) 93(15.15,1.625) 94(15.15,2.275) 95(15.15,2.925) 96(15.15,3.575) 97(15.15,4.225) 98(15.15,4.875) 99(15.15,5.525) 100(15.15,6.175) 101(15.15,6.825) 102(15.15,7.475) 103(15.15,8.125) 104(15.15,8.775) 105(15.15,9.425) 106(15.15,10.075) 107(15.15,10.725) 108(15.15,11.375)
  rect 0.45x1.8 smd: 37(-11.375,-15.15) 38(-10.725,-15.15) 39(-10.075,-15.15) 40(-9.425,-15.15) 41(-8.775,-15.15) 42(-8.125,-15.15) 43(-7.475,-15.15) 44(-6.825,-15.15) 45(-6.175,-15.15) 46(-5.525,-15.15) 47(-4.875,-15.15) 48(-4.225,-15.15) 49(-3.575,-15.15) 50(-2.925,-15.15) 51(-2.275,-15.15) 52(-1.625,-15.15) 53(-0.975,-15.15) 54(-0.325,-15.15) 55(0.325,-15.15) 56(0.975,-15.15) 57(1.625,-15.15) 58(2.275,-15.15) 59(2.925,-15.15) 60(3.575,-15.15) 61(4.225,-15.15) 62(4.875,-15.15) 63(5.525,-15.15) 64(6.175,-15.15) 65(6.825,-15.15) 66(7.475,-15.15) 67(8.125,-15.15) 68(8.775,-15.15) 69(9.425,-15.15) 70(10.075,-15.15) 71(10.725,-15.15) 72(11.375,-15.15) 109(11.375,15.15) 110(10.725,15.15) 111(10.075,15.15) 112(9.425,15.15) 113(8.775,15.15) 114(8.125,15.15) 115(7.475,15.15) 116(6.825,15.15) 117(6.175,15.15) 118(5.525,15.15) 119(4.875,15.15) 120(4.225,15.15) 121(3.575,15.15) 122(2.925,15.15) 123(2.275,15.15) 124(1.625,15.15) 125(0.975,15.15) 126(0.325,15.15) 127(-0.325,15.15) 128(-0.975,15.15) 129(-1.625,15.15) 130(-2.275,15.15) 131(-2.925,15.15) 132(-3.575,15.15) 133(-4.225,15.15) 134(-4.875,15.15) 135(-5.525,15.15) 136(-6.175,15.15) 137(-6.825,15.15) 138(-7.475,15.15) 139(-8.125,15.15) 140(-8.775,15.15) 141(-9.425,15.15) 142(-10.075,15.15) 143(-10.725,15.15) 144(-11.375,15.15)
Top Overlay:
  circle w0.305: c-11.7,11.7 r0.65
  lines w0.203: -13.9,-12.4 -13.9,12.4 -12.4,13.9 12.4,13.9 13.9,12.4 13.9,-12.4 12.4,-13.9 -12.4,-13.9 -13.9,-12.4
Mechanical 16:
  drawing of 157 lines, arcs and shapes, not listed
  text "PQFP144" at -2.81,-4.3 h1.26

## PQFP160 [mm]
pads (160):
  rect 2x0.45 smd: 1(-15.275,12.675) 2(-15.275,12.025) 3(-15.275,11.375) 4(-15.275,10.725) 5(-15.275,10.075) 6(-15.275,9.425) 7(-15.275,8.775) 8(-15.275,8.125) 9(-15.275,7.475) 10(-15.275,6.825) 11(-15.275,6.175) 12(-15.275,5.525) 13(-15.275,4.875) 14(-15.275,4.225) 15(-15.275,3.575) 16(-15.275,2.925) 17(-15.275,2.275) 18(-15.275,1.625) 19(-15.275,0.975) 20(-15.275,0.325) 21(-15.275,-0.325) 22(-15.275,-0.975) 23(-15.275,-1.625) 24(-15.275,-2.275) 25(-15.275,-2.925) 26(-15.275,-3.575) 27(-15.275,-4.225) 28(-15.275,-4.875) 29(-15.275,-5.525) 30(-15.275,-6.175) 31(-15.275,-6.825) 32(-15.275,-7.475) 33(-15.275,-8.125) 34(-15.275,-8.775) 35(-15.275,-9.425) 36(-15.275,-10.075) 37(-15.275,-10.725) 38(-15.275,-11.375) 39(-15.275,-12.025) 40(-15.275,-12.675) 81(15.275,-12.675) 82(15.275,-12.025) 83(15.275,-11.375) 84(15.275,-10.725) 85(15.275,-10.075) 86(15.275,-9.425) 87(15.275,-8.775) 88(15.275,-8.125) 89(15.275,-7.475) 90(15.275,-6.825) 91(15.275,-6.175) 92(15.275,-5.525) 93(15.275,-4.875) 94(15.275,-4.225) 95(15.275,-3.575) 96(15.275,-2.925) 97(15.275,-2.275) 98(15.275,-1.625) 99(15.275,-0.975) 100(15.275,-0.325) 101(15.275,0.325) 102(15.275,0.975) 103(15.275,1.625) 104(15.275,2.275) 105(15.275,2.925) 106(15.275,3.575) 107(15.275,4.225) 108(15.275,4.875) 109(15.275,5.525) 110(15.275,6.175) 111(15.275,6.825) 112(15.275,7.475) 113(15.275,8.125) 114(15.275,8.775) 115(15.275,9.425) 116(15.275,10.075) 117(15.275,10.725) 118(15.275,11.375) 119(15.275,12.025) 120(15.275,12.675)
  rect 0.45x2 smd: 41(-12.675,-15.275) 42(-12.025,-15.275) 43(-11.375,-15.275) 44(-10.725,-15.275) 45(-10.075,-15.275) 46(-9.425,-15.275) 47(-8.775,-15.275) 48(-8.125,-15.275) 49(-7.475,-15.275) 50(-6.825,-15.275) 51(-6.175,-15.275) 52(-5.525,-15.275) 53(-4.875,-15.275) 54(-4.225,-15.275) 55(-3.575,-15.275) 56(-2.925,-15.275) 57(-2.275,-15.275) 58(-1.625,-15.275) 59(-0.975,-15.275) 60(-0.325,-15.275) 61(0.325,-15.275) 62(0.975,-15.275) 63(1.625,-15.275) 64(2.275,-15.275) 65(2.925,-15.275) 66(3.575,-15.275) 67(4.225,-15.275) 68(4.875,-15.275) 69(5.525,-15.275) 70(6.175,-15.275) 71(6.825,-15.275) 72(7.475,-15.275) 73(8.125,-15.275) 74(8.775,-15.275) 75(9.425,-15.275) 76(10.075,-15.275) 77(10.725,-15.275) 78(11.375,-15.275) 79(12.025,-15.275) 80(12.675,-15.275) 121(12.675,15.275) 122(12.025,15.275) 123(11.375,15.275) 124(10.725,15.275) 125(10.075,15.275) 126(9.425,15.275) 127(8.775,15.275) 128(8.125,15.275) 129(7.475,15.275) 130(6.825,15.275) 131(6.175,15.275) 132(5.525,15.275) 133(4.875,15.275) 134(4.225,15.275) 135(3.575,15.275) 136(2.925,15.275) 137(2.275,15.275) 138(1.625,15.275) 139(0.975,15.275) 140(0.325,15.275) 141(-0.325,15.275) 142(-0.975,15.275) 143(-1.625,15.275) 144(-2.275,15.275) 145(-2.925,15.275) 146(-3.575,15.275) 147(-4.225,15.275) 148(-4.875,15.275) 149(-5.525,15.275) 150(-6.175,15.275) 151(-6.825,15.275) 152(-7.475,15.275) 153(-8.125,15.275) 154(-8.775,15.275) 155(-9.425,15.275) 156(-10.075,15.275) 157(-10.725,15.275) 158(-11.375,15.275) 159(-12.025,15.275) 160(-12.675,15.275)
Top Overlay:
  circle w0.254: c-12.35,12.35 r0.65
  lines w0.254: -13.9,-13.9 13.9,-13.9 13.9,13.9 -13,13.9 -13.9,13 -13.9,-13.9
Mechanical 16:
  drawing of 173 lines, arcs and shapes, not listed
  text "PQFP 160" at -3.96,-9.81 h1.26

## PQFP208 [mm]
pads (208):
  rect 1.2x0.32 smd: 1(-15.3,12.75) 2(-15.3,12.25) 3(-15.3,11.75) 4(-15.3,11.25) 5(-15.3,10.75) 6(-15.3,10.25) 7(-15.3,9.75) 8(-15.3,9.25) 9(-15.3,8.75) 10(-15.3,8.25) 11(-15.3,7.75) 12(-15.3,7.25) 13(-15.3,6.75) 14(-15.3,6.25) 15(-15.3,5.75) 16(-15.3,5.25) 17(-15.3,4.75) 18(-15.3,4.25) 19(-15.3,3.75) 20(-15.3,3.25) 21(-15.3,2.75) 22(-15.3,2.25) 23(-15.3,1.75) 24(-15.3,1.25) 25(-15.3,0.75) 26(-15.3,0.25) 27(-15.3,-0.25) 28(-15.3,-0.75) 29(-15.3,-1.25) 30(-15.3,-1.75) 31(-15.3,-2.25) 32(-15.3,-2.75) 33(-15.3,-3.25) 34(-15.3,-3.75) 35(-15.3,-4.25) 36(-15.3,-4.75) 37(-15.3,-5.25) 38(-15.3,-5.75) 39(-15.3,-6.25) 40(-15.3,-6.75) 41(-15.3,-7.25) 42(-15.3,-7.75) 43(-15.3,-8.25) 44(-15.3,-8.75) 45(-15.3,-9.25) 46(-15.3,-9.75) 47(-15.3,-10.25) 48(-15.3,-10.75) 49(-15.3,-11.25) 50(-15.3,-11.75) 51(-15.3,-12.25) 52(-15.3,-12.75) 105(15.3,-12.75) 106(15.3,-12.25) 107(15.3,-11.75) 108(15.3,-11.25) 109(15.3,-10.75) 110(15.3,-10.25) 111(15.3,-9.75) 112(15.3,-9.25) 113(15.3,-8.75) 114(15.3,-8.25) 115(15.3,-7.75) 116(15.3,-7.25) 117(15.3,-6.75) 118(15.3,-6.25) 119(15.3,-5.75) 120(15.3,-5.25) 121(15.3,-4.75) 122(15.3,-4.25) 123(15.3,-3.75) 124(15.3,-3.25) 125(15.3,-2.75) 126(15.3,-2.25) 127(15.3,-1.75) 128(15.3,-1.25) 129(15.3,-0.75) 130(15.3,-0.25) 131(15.3,0.25) 132(15.3,0.75) 133(15.3,1.25) 134(15.3,1.75) 135(15.3,2.25) 136(15.3,2.75) 137(15.3,3.25) 138(15.3,3.75) 139(15.3,4.25) 140(15.3,4.75) 141(15.3,5.25) 142(15.3,5.75) 143(15.3,6.25) 144(15.3,6.75) 145(15.3,7.25) 146(15.3,7.75) 147(15.3,8.25) 148(15.3,8.75) 149(15.3,9.25) 150(15.3,9.75) 151(15.3,10.25) 152(15.3,10.75) 153(15.3,11.25) 154(15.3,11.75) 155(15.3,12.25) 156(15.3,12.75)
  rect 0.32x1.2 smd: 53(-12.75,-15.3) 54(-12.25,-15.3) 55(-11.75,-15.3) 56(-11.25,-15.3) 57(-10.75,-15.3) 58(-10.25,-15.3) 59(-9.75,-15.3) 60(-9.25,-15.3) 61(-8.75,-15.3) 62(-8.25,-15.3) 63(-7.75,-15.3) 64(-7.25,-15.3) 65(-6.75,-15.3) 66(-6.25,-15.3) 67(-5.75,-15.3) 68(-5.25,-15.3) 69(-4.75,-15.3) 70(-4.25,-15.3) 71(-3.75,-15.3) 72(-3.25,-15.3) 73(-2.75,-15.3) 74(-2.25,-15.3) 75(-1.75,-15.3) 76(-1.25,-15.3) 77(-0.75,-15.3) 78(-0.25,-15.3) 79(0.25,-15.3) 80(0.75,-15.3) 81(1.25,-15.3) 82(1.75,-15.3) 83(2.25,-15.3) 84(2.75,-15.3) 85(3.25,-15.3) 86(3.75,-15.3) 87(4.25,-15.3) 88(4.75,-15.3) 89(5.25,-15.3) 90(5.75,-15.3) 91(6.25,-15.3) 92(6.75,-15.3) 93(7.25,-15.3) 94(7.75,-15.3) 95(8.25,-15.3) 96(8.75,-15.3) 97(9.25,-15.3) 98(9.75,-15.3) 99(10.25,-15.3) 100(10.75,-15.3) 101(11.25,-15.3) 102(11.75,-15.3) 103(12.25,-15.3) 104(12.75,-15.3) 157(12.75,15.3) 158(12.25,15.3) 159(11.75,15.3) 160(11.25,15.3) 161(10.75,15.3) 162(10.25,15.3) 163(9.75,15.3) 164(9.25,15.3) 165(8.75,15.3) 166(8.25,15.3) 167(7.75,15.3) 168(7.25,15.3) 169(6.75,15.3) 170(6.25,15.3) 171(5.75,15.3) 172(5.25,15.3) 173(4.75,15.3) 174(4.25,15.3) 175(3.75,15.3) 176(3.25,15.3) 177(2.75,15.3) 178(2.25,15.3) 179(1.75,15.3) 180(1.25,15.3) 181(0.75,15.3) 182(0.25,15.3) 183(-0.25,15.3) 184(-0.75,15.3) 185(-1.25,15.3) 186(-1.75,15.3) 187(-2.25,15.3) 188(-2.75,15.3) 189(-3.25,15.3) 190(-3.75,15.3) 191(-4.25,15.3) 192(-4.75,15.3) 193(-5.25,15.3) 194(-5.75,15.3) 195(-6.25,15.3) 196(-6.75,15.3) 197(-7.25,15.3) 198(-7.75,15.3) 199(-8.25,15.3) 200(-8.75,15.3) 201(-9.25,15.3) 202(-9.75,15.3) 203(-10.25,15.3) 204(-10.75,15.3) 205(-11.25,15.3) 206(-11.75,15.3) 207(-12.25,15.3) 208(-12.75,15.3)
Top Overlay:
  circle w0.254: c-12.959,12.802 r0.205
  lines w0.254: -14,-14 14,-14 14,14 -13,14 -14,13 -14,-14
Mechanical 16:
  drawing of 416 lines, arcs and shapes, not listed
  text "PQFP 208" at -3.31,-3.31 h1.26

## PQFP240 [mm]
pads (240):
  rect 1.5x0.32 smd: 1(-17,14.75) 2(-17,14.25) 3(-17,13.75) 4(-17,13.25) 5(-17,12.75) 6(-17,12.25) 7(-17,11.75) 8(-17,11.25) 9(-17,10.75) 10(-17,10.25) 11(-17,9.75) 12(-17,9.25) 13(-17,8.75) 14(-17,8.25) 15(-17,7.75) 16(-17,7.25) 17(-17,6.75) 18(-17,6.25) 19(-17,5.75) 20(-17,5.25) 21(-17,4.75) 22(-17,4.25) 23(-17,3.75) 24(-17,3.25) 25(-17,2.75) 26(-17,2.25) 27(-17,1.75) 28(-17,1.25) 29(-17,0.75) 30(-17,0.25) 31(-17,-0.25) 32(-17,-0.75) 33(-17,-1.25) 34(-17,-1.75) 35(-17,-2.25) 36(-17,-2.75) 37(-17,-3.25) 38(-17,-3.75) 39(-17,-4.25) 40(-17,-4.75) 41(-17,-5.25) 42(-17,-5.75) 43(-17,-6.25) 44(-17,-6.75) 45(-17,-7.25) 46(-17,-7.75) 47(-17,-8.25) 48(-17,-8.75) 49(-17,-9.25) 50(-17,-9.75) 51(-17,-10.25) 52(-17,-10.75) 53(-17,-11.25) 54(-17,-11.75) 55(-17,-12.25) 56(-17,-12.75) 57(-17,-13.25) 58(-17,-13.75) 59(-17,-14.25) 60(-17,-14.75) 121(17,-14.75) 122(17,-14.25) 123(17,-13.75) 124(17,-13.25) 125(17,-12.75) 126(17,-12.25) 127(17,-11.75) 128(17,-11.25) 129(17,-10.75) 130(17,-10.25) 131(17,-9.75) 132(17,-9.25) 133(17,-8.75) 134(17,-8.25) 135(17,-7.75) 136(17,-7.25) 137(17,-6.75) 138(17,-6.25) 139(17,-5.75) 140(17,-5.25) 141(17,-4.75) 142(17,-4.25) 143(17,-3.75) 144(17,-3.25) 145(17,-2.75) 146(17,-2.25) 147(17,-1.75) 148(17,-1.25) 149(17,-0.75) 150(17,-0.25) 151(17,0.25) 152(17,0.75) 153(17,1.25) 154(17,1.75) 155(17,2.25) 156(17,2.75) 157(17,3.25) 158(17,3.75) 159(17,4.25) 160(17,4.75) 161(17,5.25) 162(17,5.75) 163(17,6.25) 164(17,6.75) 165(17,7.25) 166(17,7.75) 167(17,8.25) 168(17,8.75) 169(17,9.25) 170(17,9.75) 171(17,10.25) 172(17,10.75) 173(17,11.25) 174(17,11.75) 175(17,12.25) 176(17,12.75) 177(17,13.25) 178(17,13.75) 179(17,14.25) 180(17,14.75)
  rect 0.32x1.5 smd: 61(-14.75,-17) 62(-14.25,-17) 63(-13.75,-17) 64(-13.25,-17) 65(-12.75,-17) 66(-12.25,-17) 67(-11.75,-17) 68(-11.25,-17) 69(-10.75,-17) 70(-10.25,-17) 71(-9.75,-17) 72(-9.25,-17) 73(-8.75,-17) 74(-8.25,-17) 75(-7.75,-17) 76(-7.25,-17) 77(-6.75,-17) 78(-6.25,-17) 79(-5.75,-17) 80(-5.25,-17) 81(-4.75,-17) 82(-4.25,-17) 83(-3.75,-17) 84(-3.25,-17) 85(-2.75,-17) 86(-2.25,-17) 87(-1.75,-17) 88(-1.25,-17) 89(-0.75,-17) 90(-0.25,-17) 91(0.25,-17) 92(0.75,-17) 93(1.25,-17) 94(1.75,-17) 95(2.25,-17) 96(2.75,-17) 97(3.25,-17) 98(3.75,-17) 99(4.25,-17) 100(4.75,-17) 101(5.25,-17) 102(5.75,-17) 103(6.25,-17) 104(6.75,-17) 105(7.25,-17) 106(7.75,-17) 107(8.25,-17) 108(8.75,-17) 109(9.25,-17) 110(9.75,-17) 111(10.25,-17) 112(10.75,-17) 113(11.25,-17) 114(11.75,-17) 115(12.25,-17) 116(12.75,-17) 117(13.25,-17) 118(13.75,-17) 119(14.25,-17) 120(14.75,-17) 181(14.75,17) 182(14.25,17) 183(13.75,17) 184(13.25,17) 185(12.75,17) 186(12.25,17) 187(11.75,17) 188(11.25,17) 189(10.75,17) 190(10.25,17) 191(9.75,17) 192(9.25,17) 193(8.75,17) 194(8.25,17) 195(7.75,17) 196(7.25,17) 197(6.75,17) 198(6.25,17) 199(5.75,17) 200(5.25,17) 201(4.75,17) 202(4.25,17) 203(3.75,17) 204(3.25,17) 205(2.75,17) 206(2.25,17) 207(1.75,17) 208(1.25,17) 209(0.75,17) 210(0.25,17) 211(-0.25,17) 212(-0.75,17) 213(-1.25,17) 214(-1.75,17) 215(-2.25,17) 216(-2.75,17) 217(-3.25,17) 218(-3.75,17) 219(-4.25,17) 220(-4.75,17) 221(-5.25,17) 222(-5.75,17) 223(-6.25,17) 224(-6.75,17) 225(-7.25,17) 226(-7.75,17) 227(-8.25,17) 228(-8.75,17) 229(-9.25,17) 230(-9.75,17) 231(-10.25,17) 232(-10.75,17) 233(-11.25,17) 234(-11.75,17) 235(-12.25,17) 236(-12.75,17) 237(-13.25,17) 238(-13.75,17) 239(-14.25,17) 240(-14.75,17)
Top Overlay:
  circle w0.254: c-14,14 r0.75
  lines w0.203: -15.9,-15.9 15.9,-15.9 15.9,15.9 -15.9,15.9 -15.9,-15.9
Mechanical 16:
  drawing of 493 lines, arcs and shapes, not listed
  text "PQFP240" at -3.31,-8.39 h1.26